# EAGLE library part CON_MICROSD (library kaibader)
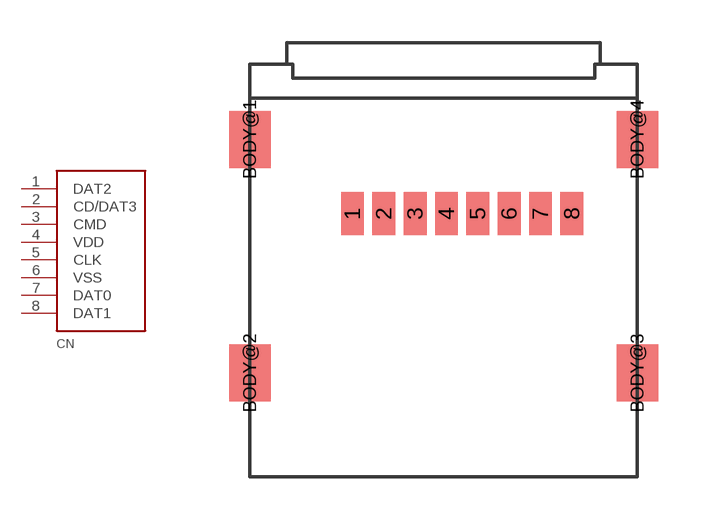
[diagram p4: symbol with the pads of CON_MICROSD_HINGED; footprint CON_MICROSD_HINGED]

Designator prefix CN

## CON_MICROSDHINGED  [CON_MICROSD_HINGED]
1  DAT2
2  CD/DAT3
3  CMD
4  VDD
5  CLK
6  VSS
7  DAT0
8  DAT1

## Footprint CON_MICROSD_HINGED (pad centres in mm)
smd 0.8 x 1.5: 1 -3.2,2.6; 2 -2.1,2.6; 3 -1,2.6; 4 0.1,2.6; 5 1.2,2.6; 6 2.3,2.6; 7 3.4,2.6; 8 4.5,2.6
smd 1.45 x 2: BODY@1 -6.8,5.2; BODY@2 -6.8,-3; BODY@3 6.8,-3; BODY@4 6.8,5.2